# Altium footprint library AD9833.PcbLib: 3 footprints
Each footprint in its own frame and in the unit in brackets; x right, y up, seen from the top. Pads: shape width x height; smd on the part's side, far side on the other; paste and mask are expansions set on the pad; w line width, h text height; cw(c..) or ccw(c..) is an arc to the next point about the centre after c.
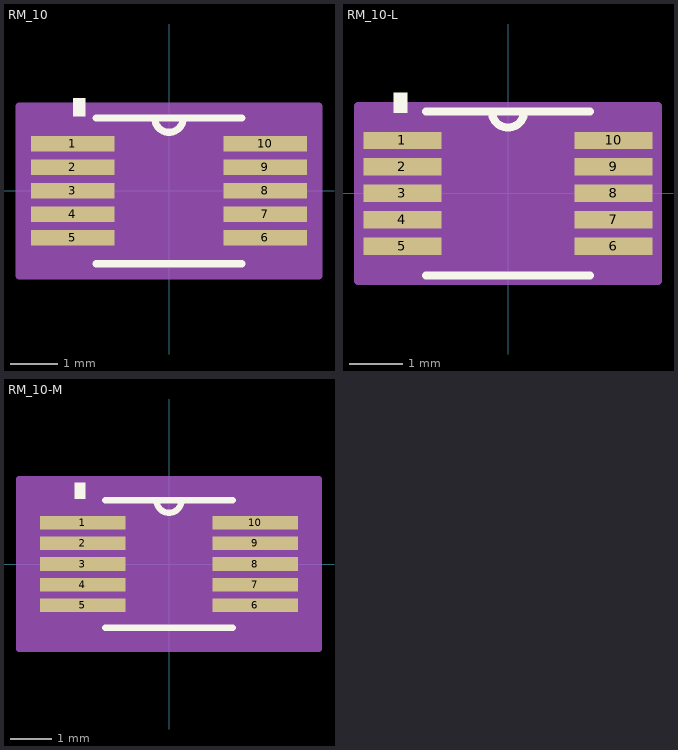
[diagram p0: the footprints below, top view; thin cyan lines are the x and y axes]

## RM_10 [mil]
pads (10):
  rect 70x13 smd mask+4: 1(-80.5,39.37) 2(-80.5,19.68) 3(-80.5,0) 4(-80.5,-19.68) 5(-80.5,-39.37) 6(80.5,-39.37) 7(80.5,-19.68) 8(80.5,0) 9(80.5,19.68) 10(80.5,39.37)
Top Overlay:
  region: -80,77.5 -70,77.5 -70,62.5 -80,62.5
  lines w6: -61,-61 61,-61 ; -61,61 61,61 ; -12,61 ccw(c0,61) 12,61
Mechanical 13:
  lines w0: -12,61 ccw(c0,61) 12,61
Mechanical 15:
  region: 125.5,-71 -125.5,-71 -125.5,71 125.5,71
  lines w6: -125.5,-71 125.5,-71 125.5,71 -125.5,71 -125.5,-71
3D body "RM_10.stp": height 43.1, standoff 0, extent -101.5,-61 101.5,61

## RM_10-L [mil]
pads (10):
  rect 58x13 smd mask+4: 1(-78.5,39.37) 2(-78.5,19.68) 3(-78.5,0) 4(-78.5,-19.68) 5(-78.5,-39.37) 6(78.5,-39.37) 7(78.5,-19.68) 8(78.5,0) 9(78.5,19.68) 10(78.5,39.37)
Top Overlay:
  region: -85,75 -75,75 -75,60 -85,60
  lines w6: -61,-61 61,-61 ; -61,61 61,61 ; -12,61 ccw(c0,61) 12,61
Mechanical 13:
  lines w0: -12,61 ccw(c0,61) 12,61
Mechanical 15:
  region: 111.5,-65 -111.5,-65 -111.5,65 111.5,65
  lines w6: -111.5,-65 111.5,-65 111.5,65 -111.5,65 -111.5,-65
3D body "RM_10-L.stp": height 43.1, standoff 0, extent -101.5,-61 101.5,61

## RM_10-M [mil]
pads (10):
  rect 82x13 smd mask+4: 1(-82.5,39.37) 2(-82.5,19.68) 3(-82.5,0) 4(-82.5,-19.68) 5(-82.5,-39.37) 6(82.5,-39.37) 7(82.5,-19.68) 8(82.5,0) 9(82.5,19.68) 10(82.5,39.37)
Top Overlay:
  region: -90,77.5 -80,77.5 -80,62.5 -90,62.5
  lines w6: -61,-61 61,-61 ; -61,61 61,61 ; -12,61 ccw(c0,61) 12,61
Mechanical 13:
  lines w0: -12,61 ccw(c0,61) 12,61
Mechanical 15:
  region: 143.5,-81 -143.5,-81 -143.5,81 143.5,81
  lines w6: -143.5,-81 143.5,-81 143.5,81 -143.5,81 -143.5,-81
3D body "RM_10-M.stp": height 43.1, standoff 0, extent -101.5,-61 101.5,61